# Altium footprint library 温控库.PcbLib: 3 footprints
Each footprint in its own frame and in the unit in brackets; x right, y up, seen from the top. Pads: shape width x height; smd on the part's side, far side on the other; paste and mask are expansions set on the pad; w line width, h text height; cw(c..) or ccw(c..) is an arc to the next point about the centre after c.
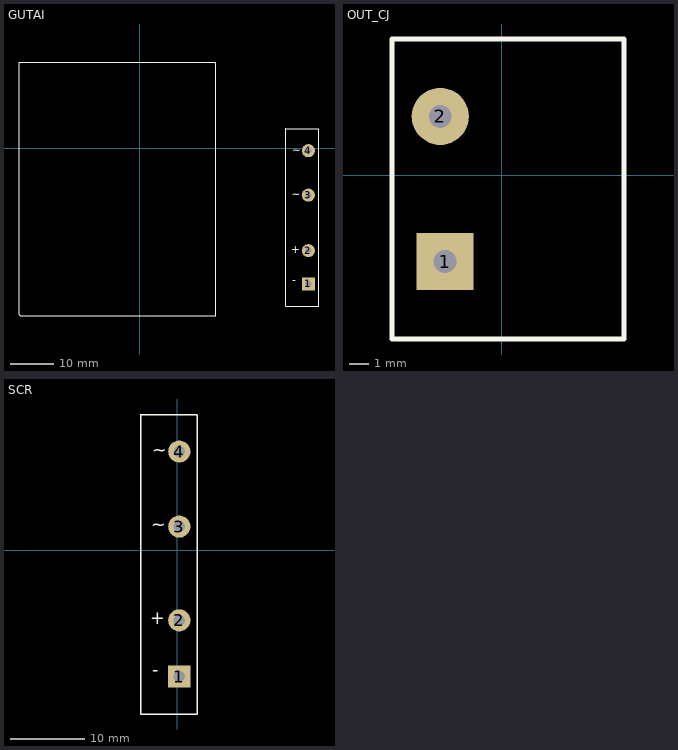
[diagram p0: the footprints below, top view; thin cyan lines are the x and y axes]

## GUTAI [mm]
pads (4):
  rect 3x3 hole 1.5 paste+0: 1(38.608,-30.988)
  round 3 hole 1.5: 2(38.608,-23.368) 3(38.608,-10.668) 4(38.608,-0.508)
Top Overlay:
  lines w0.2: 33.391,4.499 41.011,4.499 ; 33.421,4.572 33.421,-32.258 33.421,-36.026 33.441,-36.046 41.041,-36.046 41.041,-32.258 ; 41.011,-32.431 41.011,-23.223 41.011,-4.808 41.011,4.399
  lines w0.254: -27.559,-35.179 -27.559,19.685 17.399,19.685 17.399,-38.227 -27.305,-38.227 -27.559,-37.973 -27.559,-9.017
  text "+" at 34.671,-24.511 h3
  text "-" at 34.925,-31.496 h3
  text "~" at 34.925,-1.778 h3
  text "~" at 34.798,-11.811 h3

## OUT_CJ [mm]
pads (2):
  rect 3x3 hole 1.2: 1(-2.98,-4.536)
  round 3 hole 1.2: 2(-3.234,3.084)
Top Overlay:
  lines w0.254: -5.774,6.132 -5.774,7.148 6.418,7.148 6.418,6.132 ; -5.774,6.64 -5.774,-8.6 ; 6.164,-8.6 -5.774,-8.6 ; 6.418,6.64 6.418,-8.6 -5.774,-8.6

## SCR [mm]
pads (4):
  rect 3x3 hole 1.5 paste+0: 1(0.254,-17.145)
  round 3 hole 1.5: 2(0.254,-9.525) 3(0.254,3.175) 4(0.254,13.335)
Top Overlay:
  lines w0.2: -4.963,18.342 2.657,18.342 ; -4.933,18.415 -4.933,-18.415 -4.933,-22.183 -4.913,-22.203 2.687,-22.203 2.687,-18.415 ; 2.657,-18.588 2.657,-9.38 2.657,9.035 2.657,18.242
  text "~" at -3.556,2.032 h3
  text "~" at -3.429,12.065 h3
  text "-" at -3.429,-17.653 h3
  text "+" at -3.683,-10.668 h3